# Altium schematic symbol library SMAJ30A.SchLib: 1 symbol
Pins are listed as number, name and electrical type; pins without a type are passive.

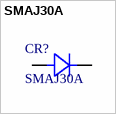
[diagram p0: symbol SMAJ30A]

## SMAJ30A
designator CR?
Uni-directional ESD, 400W 30V 5%; Manufacturer_Name: Littelfuse Inc; Copyright: Copyright (C) 2026 Ultra Librarian. All rights reserved.; Manufacturer_Part_Number: SMAJ30A
footprint SMASeries_LTF
pins: 1, 2